# Altium footprint library FKV(K16).PcbLib: 1 footprints
Each footprint in its own frame and in the unit in brackets; x right, y up, seen from the top. Pads: shape width x height; smd on the part's side, far side on the other; paste and mask are expansions set on the pad; w line width, h text height; cw(c..) or ccw(c..) is an arc to the next point about the centre after c.
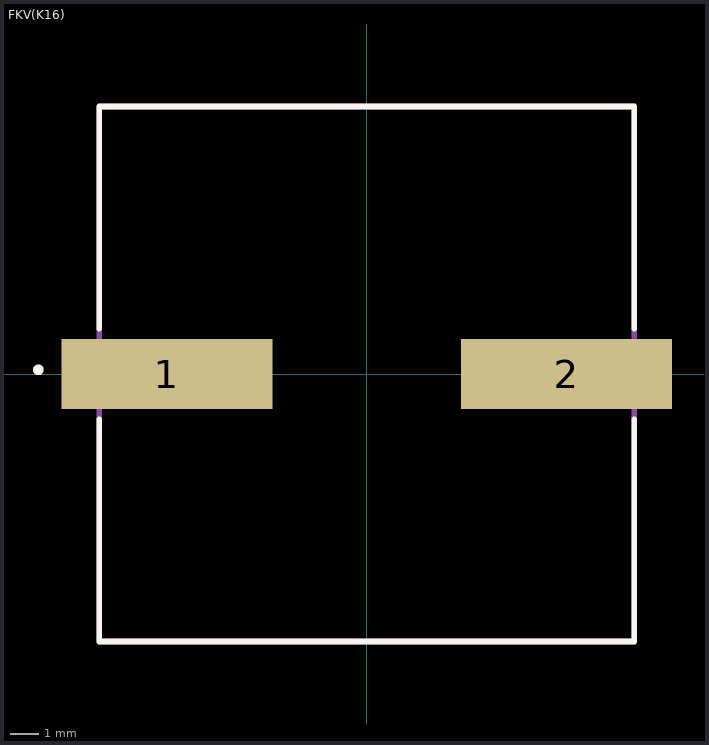
[diagram p0: the footprint, top view; thin cyan lines are the x and y axes]

## FKV(K16) [mm]
pads (2):
  rect 7.5x2.5 smd: 1(-7.1,0) 2(7.1,0)
L26-Silk Screen Top (Multiple PADS layers...):
  circle w0.2: c-11.666,0.149 r0.089
  lines w0.2: -9.5,-1.606 -9.5,-9.5 9.5,-9.5 9.5,-1.606 ; -9.5,1.606 -9.5,9.5 9.5,9.5 9.5,1.606
L15 (Multiple PADS layers...):
  lines w0.2: -9.5,-9.5 9.5,-9.5 9.5,9.5 -9.5,9.5 -9.5,-9.5